# EAGLE library part TTP-226LIB (library ttp-226)
This is the eagle library for 8 channel touch ttp226-809SN ic. Author: Sumeri Lal Email: sumerilal1997.lko@gmail.com Source: github.com/SumeriLal/EagleCAD
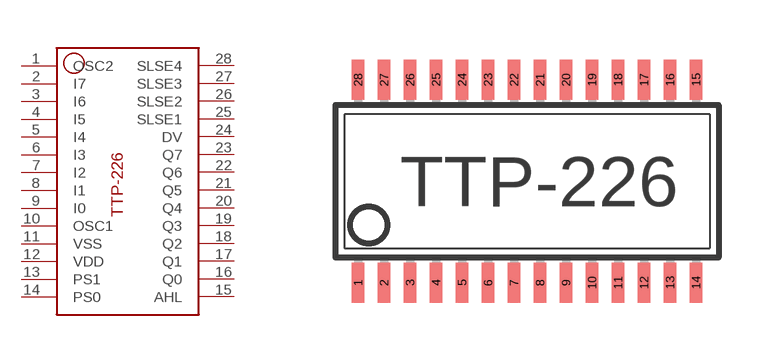
[diagram p0: symbol with the pads of TSSOP28; footprint TSSOP28]

Designator prefix -

## TTP-226LIBTOUCH-TTP226  [TSSOP28]
1  OSC2
2  I7  in
3  I6  in
4  I5  in
5  I4  in
6  I3  in
7  I2  in
8  I1  in
9  I0  in
10  OSC1  oc
11  VSS  pwr
12  VDD  pwr
13  PS1  pas
14  PS0  pas
15  AHL  pas
16  Q0  out
17  Q1  out
18  Q2  out
19  Q3  out
20  Q4  out
21  Q5  out
22  Q6  out
23  Q7  out
24  DV  hiz
25  SLSE1  pas
26  SLSE2  pas
27  SLSE3  pas
28  SLSE4  pas

## Footprint TSSOP28 (pad centres in mm)
Touch IC ttp226-809SN eagle lirary. Created by Sumeri Lal
smd 0.305 x 0.991: 1 -4.225,-2.918; 2 -3.575,-2.918; 3 -2.925,-2.918; 4 -2.275,-2.918; 5 -1.625,-2.918; 6 -0.975,-2.918; 7 -0.325,-2.918; 8 0.325,-2.918; 9 0.975,-2.918; 10 1.625,-2.918; 11 2.275,-2.918; 12 2.925,-2.918; 13 3.575,-2.918; 14 4.225,-2.918; 15 4.225,2.156; 16 3.575,2.156; 17 2.925,2.156; 18 2.275,2.156; 19 1.625,2.156; 20 0.975,2.156; 21 0.325,2.156; 22 -0.325,2.156; 23 -0.975,2.156; 24 -1.625,2.156; 25 -2.275,2.156; 26 -2.925,2.156; 27 -3.575,2.156; 28 -4.225,2.156